# Altium schematic symbol library power_transistor.SchLib: 16 symbols
Pins are listed as number, name and electrical type; pins without a type are passive.

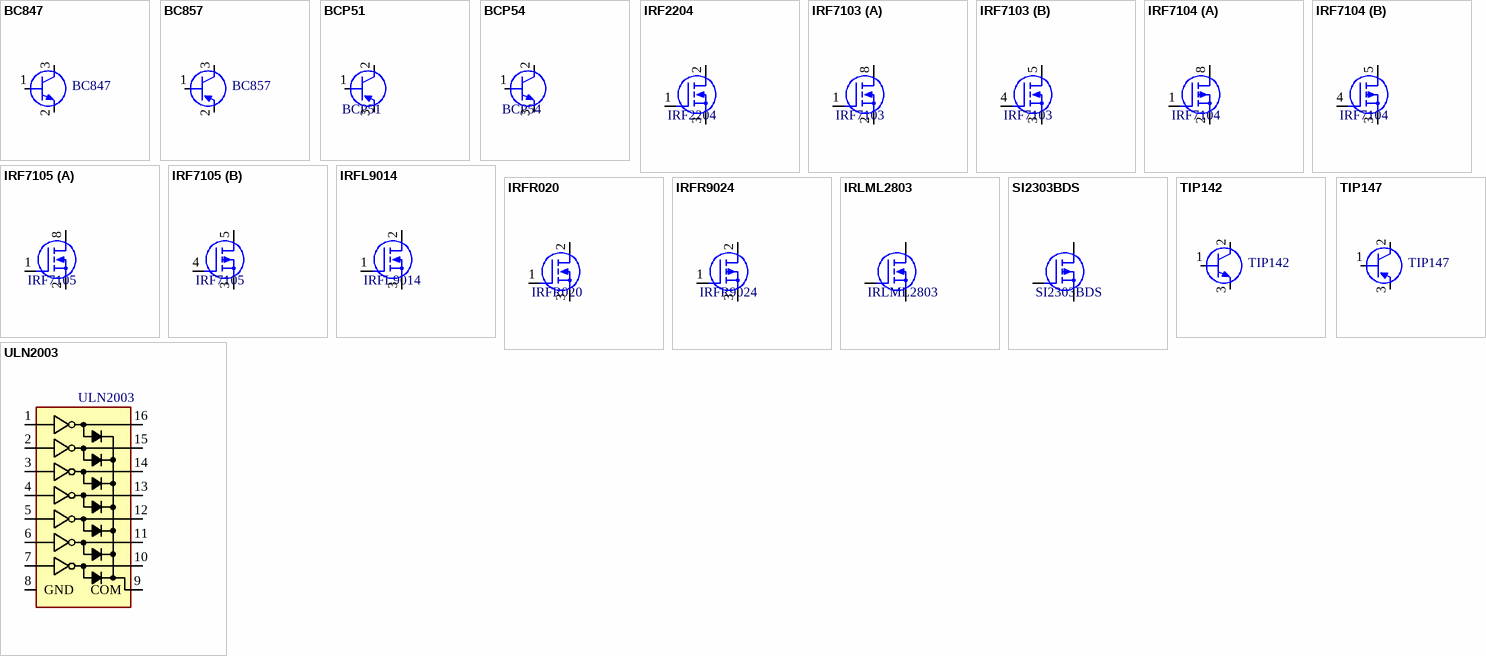
[diagram p0: symbols BC847 to ULN2003]

## BC847
designator VT?
NPN 45V 0.1A 200hfe 100MHz; Value: *; RevisionDate: 11-01-2018; Name: BC847
footprint SOT-23/BR (SOT23, 3-Leads, Body 2,95x2,82mm, Pitch 0,95mm, IPC Medium Density)
footprint SOT-323 (SOT23, 3-Leads, Body 2,00x2,10mm, Pitch 0,65mm, IPC Medium Density)
pins: 1 B, 2 E, 3 C

## BC857
designator VT?  Name: BC857
PNP -65V -0.1A 200hfe 100MHz; Value: *; RevisionDate: 11-01-2018
footprint SOT-23/BR (SOT23, 3-Leads, Body 2,95x2,82mm, Pitch 0,95mm, IPC Medium Density)
footprint SOT-323 (SOT23, 3-Leads, Body 2,00x2,10mm, Pitch 0,65mm, IPC Medium Density)
pins: 1 B, 2 E, 3 C

## BCP51
designator VT?
PNP -45V -1.0A 100hfe; Value: *; RevisionDate: 11-01-2018; Name: BCP51
footprint SOT-223 (SOT223, 4-Leads, Body 6,50x7,00mm (avg), Pitch 2,30mm, IPC Medium Density)
footprint SOT-89 (SOT89, 3-Leads, Body 4,50x2,50mm, Pitch 1,50mm, Lead Span 4,1mm, IPC Medium Density)
pins: 1 B, 2 C, 3 E

## BCP54
designator VT?
NPN 45V 1.0A 100hfe; Value: *; RevisionDate: 11-01-2018; Name: BCP54
footprint SOT-223 (SOT223, 4-Leads, Body 6,50x7,00mm (avg), Pitch 2,30mm, IPC Medium Density)
footprint SOT-89 (SOT89, 3-Leads, Body 4,50x2,50mm, Pitch 1,50mm, Lead Span 4,1mm, IPC Medium Density)
pins: 1 B, 2 C, 3 E

## IRF2204
designator VT?
N-ch 60V 14A 0.1R; Value: *; RevisionDate: 11-01-2018; Name: IRF2204
footprint TO-220 (TO, Thru-Hole, Vertical, Heatsink Mounted; 3 In-Line Leads; Pitch 2.54 mm)
pins: 1 G, 2 D, 3 S

## IRF7103
designator VT?
N-ch 50V 3.0A 0.13R; Value: *; RevisionDate: 11-01-2018; Name: IRF7103
footprint SOIC-8 (SOIC, 8-Leads, Body 4,90x3,95mm, Pitch 1,27mm, IPC Medium Density)
part A pins: 1 G, 2 S, 7 D hidden, 8 D
part B pins: 3 S, 4 G, 5 D, 6 D hidden

## IRF7104
designator VT?
P-ch -20V -2.3A 0.25R; Value: *; RevisionDate: 11-01-2018; Name: IRF7104
footprint SOIC-8 (SOIC, 8-Leads, Body 4,90x3,95mm, Pitch 1,27mm, IPC Medium Density)
part A pins: 1 G, 2 S, 7 D hidden, 8 D
part B pins: 3 S, 4 G, 5 D, 6 D hidden

## IRF7105
designator VT?
P/N-ch 25/-25V 3.5/-2.5A 0.1/0.25R; Value: *; RevisionDate: 11-01-2018; Name: IRF7105
footprint SOIC-8 (SOIC, 8-Leads, Body 4,90x3,95mm, Pitch 1,27mm, IPC Medium Density)
part A pins: 1 G, 2 S, 7 D hidden, 8 D
part B pins: 3 S, 4 G, 5 D, 6 D hidden

## IRFL9014
designator VT?
P-ch -60V -1.8A 0.5R; Value: *; RevisionDate: 11-01-2018; Name: IRFL9014
footprint SOT-223 (SOT223, 4-Leads, Body 6,50x7,00mm (avg), Pitch 2,30mm, IPC Medium Density)
pins: 1 G, 2 D, 3 S

## IRFR020
designator VT?
N-ch 60V 14A 0.1R; Value: *; RevisionDate: 11-01-2018; Name: IRFR020
footprint TO-252-3/DPAK (D-PAK, 3-Pads, Body 6,20x6,71mm (max), IPC Medium Density)
footprint TO-263-3/D2PAK
pins: 1 G, 2 D, 3 S

## IRFR9024
designator VT?
P-ch -55V -11A 0.175R; Value: *; RevisionDate: 11-01-2018; Name: IRFR9024
footprint TO-252-3/DPAK (D-PAK, 3-Pads, Body 6,20x6,71mm (max), IPC Medium Density)
footprint TO-263-3/D2PAK
pins: 1 G, 2 D, 3 S

## IRLML2803
designator VT?
N-ch 30V 1.2A 0.25R; Value: *; RevisionDate: 11-01-2018; Name: IRLML2803
footprint SOT-23/BR (SOT23, 3-Leads, Body 2,95x2,82mm, Pitch 0,95mm, IPC Medium Density)
pins: 1 G, 2 S, 3 D

## SI2303BDS
designator VT?
P-ch -30V 1.6A 0.38R; Value: *; RevisionDate: 11-01-2018; Name: SI2303BDS
footprint SOT-23/BR (SOT23, 3-Leads, Body 2,95x2,82mm, Pitch 0,95mm, IPC Medium Density)
pins: 1 G, 2 S, 3 D

## TIP142
designator VT?
NPN 100V 10A 1000hfe 80W; Value: *; RevisionDate: 11-01-2018; Power: 80W; Package: TO-220; Name: TIP142
footprint TO-220 (TO, Thru-Hole, Vertical, Heatsink Mounted; 3 In-Line Leads; Pitch 2.54 mm)
footprint TO-247 (SIP; 3 Leads; Body 20.3 x 15.6 x 5 mm (typ); Pitch 5.45 mm)
pins: 1 B, 2 C, 3 E

## TIP147
designator VT?
PNP -100V -10A 1000hfe 80W; Value: *; RevisionDate: 11-01-2018; Power: 80W; Package: TO-220; Name: TIP147
footprint TO-220 (TO, Thru-Hole, Vertical, Heatsink Mounted; 3 In-Line Leads; Pitch 2.54 mm)
footprint TO-247 (SIP; 3 Leads; Body 20.3 x 15.6 x 5 mm (typ); Pitch 5.45 mm)
pins: 1 B, 2 C, 3 E

## ULN2003
designator VT?
BJT 60V 0.2A/ch; Value: 60V 1.0A; RevisionDate: 11-01-2018; Name: ULN2003
footprint SOIC-16 (SOIC, 16-Leads, Body 10,60x3,90mm, Pitch 1,27mm, IPC Medium Density)
pins: 1, 2, 3, 4, 5, 6, 7, 8 GND, 9 COM, 10, 11, 12, 13, 14, 15, 16